# EAGLE library part GND16 (library macros)
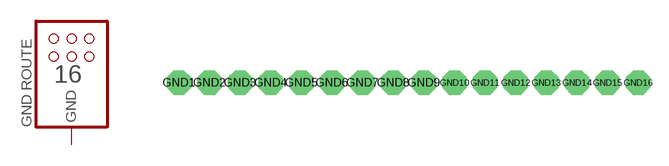
[diagram p11: symbol with the pads of GND16; footprint GND16]

Designator prefix $

## GND16  [GND16]
GND1  GND  pwr
GND2  GND  pwr
GND3  GND  pwr
GND4  GND  pwr
GND5  GND  pwr
GND6  GND  pwr
GND7  GND  pwr
GND8  GND  pwr
GND9  GND  pwr
GND10  GND  pwr
GND11  GND  pwr
GND12  GND  pwr
GND13  GND  pwr
GND14  GND  pwr
GND15  GND  pwr
GND16  GND  pwr

## Footprint GND16 (pad centres in mm)
drill 0.813 pad 2.032 octagon: GND1 0,0; GND2 2.54,0; GND3 5.08,0; GND4 7.62,0; GND5 10.16,0; GND6 12.7,0; GND7 15.24,0; GND8 17.78,0; GND9 20.32,0; GND10 22.86,0; GND11 25.4,0; GND12 27.94,0; GND13 30.48,0; GND14 33.02,0; GND15 35.56,0; GND16 38.1,0